# Altium schematic symbol library MOV-14D561KTR.SchLib: 1 symbol
Pins are listed as number, name and electrical type; pins without a type are passive.

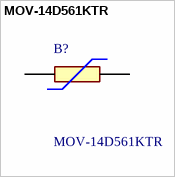
[diagram p0: symbol MOV-14D561KTR]

## MOV-14D561KTR
designator B?
560 V 4.5 kA Varistor 1 Circuit Through Hole Disc 14mm; Manufacturer_Name: Bourns; Geometry.Height: 22mm; Manufacturer_Part_Number: MOV-14D561KTR; Mouser Part Number: 652-MOV-14D561KTR; Mouser Price/Stock: https://www.mouser.co.uk/ProductDetail/Bourns/MOV-14D561KTR?qs=CQ3B1E%252BbPs2c86JUrhXAFQ%3D%3D; Arrow Part Number: MOV-14D561KTR; Arrow Price/Stock: https://www.arrow.com/en/products/mov-14d561ktr/bourns?region=nac; Datasheet Link: https://www.bourns.com/docs/Product-Datasheets/MOV14D.pdf
footprint MOV14D561KTR
pins: 1, 2